# EAGLE library part ADSP21161 (library analog-devices)
DSP Microcomputer
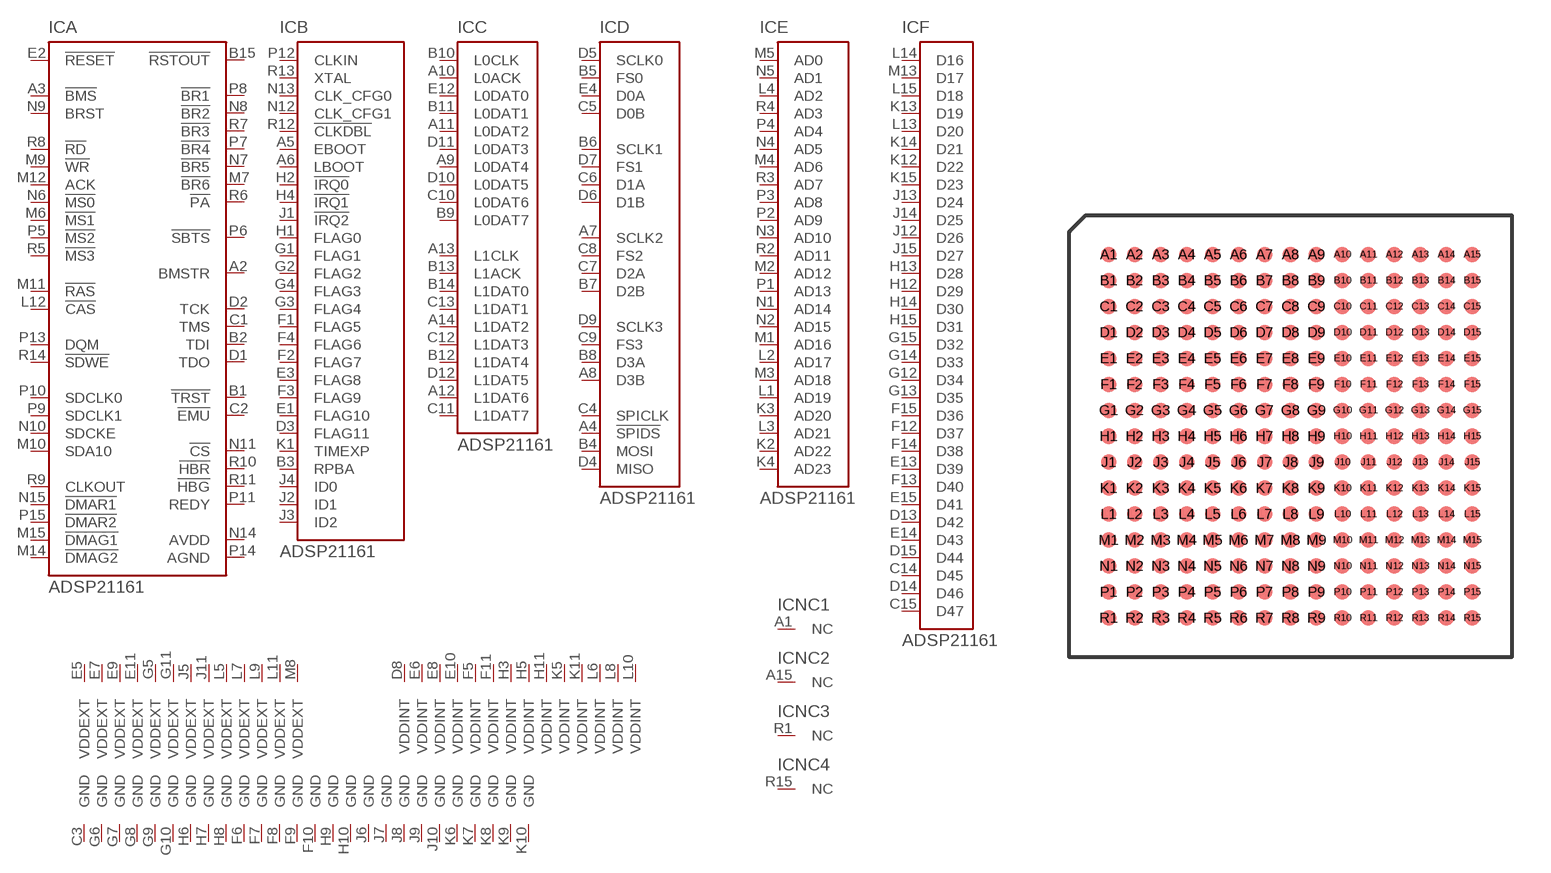
[diagram p21: symbol with the pads of MBGA225; footprint MBGA225]

Designator prefix IC; gates E=ADSP-21161-ADR NC1=NC NC2=NC B=ADSP-21161-CTRL1 A=ADSP-21161-CTRL2 C=ADSP-21161-PAR D=ADSP-21161-SER VE1=VDDEXT VE2=VDDEXT VE3=VDDEXT VE4=VDDEXT VE5=VDDEXT VE6=VDDEXT VE7=VDDEXT VI1=VDDINT VI2=VDDINT VI3=VDDINT VI4=VDDINT VI5=VDDINT VI6=VDDINT VI7=VDDINT G1=GND G2=GND G3=GND G4=GND G5=GND G6=GND G7=GND G8=GND G9=GND G10=GND G11=GND G12=GND G13=GND G14=GND G15=GND G16=GND G17=GND F=ADSP-21161-DATA VE8=VDDEXT VE9=VDDEXT VE10=VDDEXT VE11=VDDEXT VE12=VDDEXT VI8=VDDINT VI9=VDDINT VI10=VDDINT VI11=VDDINT VI12=VDDINT VI13=VDDINT G18=GND G19=GND G20=GND G21=GND G22=GND G23=GND G24=GND G25=GND G26=GND VE13=VDDEXT VI14=VDDINT AV=AVDD AG=AGND NC3=NC NC4=NC

## ADSP21161 (MF: ALTERA CORPORATION; MPN: ADSP-21161NCCA-100; OC_FARNELL: 1465539; OC_NEWARK: 02H1229)  [MBGA225]
A1  NC1:NC  nc
A2  A:BMSTR  out
A3  A:!BMS
A4  D:!SPIDS  in
A5  B:EBOOT  in
A6  B:LBOOT  in
A7  D:SCLK2
A8  D:D3B
A9  C:L0DAT4
A10  C:L0ACK
A11  C:L0DAT2
A12  C:L1DAT6
A13  C:L1CLK
A14  C:L1DAT2
A15  NC2:NC  nc
B1  A:!TRST  in
B2  A:TDI  in
B3  B:RPBA  in
B4  D:MOSI
B5  D:FS0
B6  D:SCLK1
B7  D:D2B
B8  D:D3A
B9  C:L0DAT7
B10  C:L0CLK
B11  C:L0DAT1
B12  C:L1DAT4
B13  C:L1ACK
B14  C:L1DAT0
B15  A:!RSTOUT  out
C1  A:TMS  in
C2  A:!EMU  out
C3  G1:GND  pwr
C4  D:SPICLK
C5  D:D0B
C6  D:D1A
C7  D:D2A
C8  D:FS2
C9  D:FS3
C10  C:L0DAT6
C11  C:L1DAT7
C12  C:L1DAT3
C13  C:L1DAT1
C14  F:D45  hiz
C15  F:D47  hiz
D1  A:TDO  out
D2  A:TCK  in
D3  B:FLAG11
D4  D:MISO
D5  D:SCLK0
D6  D:D1B
D7  D:FS1
D8  VI1:VDDINT  pwr
D9  D:SCLK3
D10  C:L0DAT5
D11  C:L0DAT3
D12  C:L1DAT5
D13  F:D42  hiz
D14  F:D46  hiz
D15  F:D44  hiz
E1  B:FLAG10
E2  A:!RESET  in
E3  B:FLAG8
E4  D:D0A
E5  VE1:VDDEXT  pwr
E6  VI2:VDDINT  pwr
E7  VE2:VDDEXT  pwr
E8  VI3:VDDINT  pwr
E9  VE3:VDDEXT  pwr
E10  VI4:VDDINT  pwr
E11  VE4:VDDEXT  pwr
E12  C:L0DAT0
E13  F:D39  hiz
E14  F:D43  hiz
E15  F:D41  hiz
F1  B:FLAG5
F2  B:FLAG7
F3  B:FLAG9
F4  B:FLAG6
F5  VI5:VDDINT  pwr
F6  G10:GND  pwr
F7  G11:GND  pwr
F8  G12:GND  pwr
F9  G13:GND  pwr
F10  G14:GND  pwr
F11  VI6:VDDINT  pwr
F12  F:D37  hiz
F13  F:D40  hiz
F14  F:D38  hiz
F15  F:D36  hiz
G1  B:FLAG1
G2  B:FLAG2
G3  B:FLAG4
G4  B:FLAG3
G5  VE5:VDDEXT  pwr
G6  G2:GND  pwr
G7  G3:GND  pwr
G8  G4:GND  pwr
G9  G5:GND  pwr
G10  G6:GND  pwr
G11  VE6:VDDEXT  pwr
G12  F:D34  hiz
G13  F:D35  hiz
G14  F:D33  hiz
G15  F:D32  hiz
H1  B:FLAG0
H2  B:!IRQ0  in
H3  VI7:VDDINT  pwr
H4  B:!IRQ1  in
H5  VI8:VDDINT  pwr
H6  G7:GND  pwr
H7  G8:GND  pwr
H8  G9:GND  pwr
H9  G15:GND  pwr
H10  G16:GND  pwr
H11  VI9:VDDINT  pwr
H12  F:D29  hiz
H13  F:D28  hiz
H14  F:D30  hiz
H15  F:D31  hiz
J1  B:!IRQ2  in
J2  B:ID1  in
J3  B:ID2  in
J4  B:ID0  in
J5  VE7:VDDEXT  pwr
J6  G17:GND  pwr
J7  G18:GND  pwr
J8  G19:GND  pwr
J9  G20:GND  pwr
J10  G21:GND  pwr
J11  VE8:VDDEXT  pwr
J12  F:D26  hiz
J13  F:D24  hiz
J14  F:D25  hiz
J15  F:D27  hiz
K1  B:TIMEXP  out
K2  E:AD22  hiz
K3  E:AD20  hiz
K4  E:AD23  hiz
K5  VI10:VDDINT  pwr
K6  G22:GND  pwr
K7  G23:GND  pwr
K8  G24:GND  pwr
K9  G25:GND  pwr
K10  G26:GND  pwr
K11  VI11:VDDINT  pwr
K12  F:D22  hiz
K13  F:D19  hiz
K14  F:D21  hiz
K15  F:D23  hiz
L1  E:AD19  hiz
L2  E:AD17  hiz
L3  E:AD21  hiz
L4  E:AD2  hiz
L5  VE9:VDDEXT  pwr
L6  VI12:VDDINT  pwr
L7  VE10:VDDEXT  pwr
L8  VI13:VDDINT  pwr
L9  VE11:VDDEXT  pwr
L10  VI14:VDDINT  pwr
L11  VE12:VDDEXT  pwr
L12  A:!CAS
L13  F:D20  hiz
L14  F:D16  hiz
L15  F:D18  hiz
M1  E:AD16  hiz
M2  E:AD12  hiz
M3  E:AD18  hiz
M4  E:AD6  hiz
M5  E:AD0  hiz
M6  A:!MS1  hiz
M7  A:!BR6
M8  VE13:VDDEXT  pwr
M9  A:!WR  hiz
M10  A:SDA10  out
M11  A:!RAS
M12  A:ACK
M13  F:D17  hiz
M14  A:!DMAG2  out
M15  A:!DMAG1  out
N1  E:AD14  hiz
N2  E:AD15  hiz
N3  E:AD10  hiz
N4  E:AD5  hiz
N5  E:AD1  hiz
N6  A:!MS0  hiz
N7  A:!BR5
N8  A:!BR2
N9  A:BRST  hiz
N10  A:SDCKE
N11  A:!CS  in
N12  B:CLK_CFG1  in
N13  B:CLK_CFG0  in
N14  AV:AVDD  pwr
N15  A:!DMAR1  in
P1  E:AD13  hiz
P2  E:AD9  hiz
P3  E:AD8  hiz
P4  E:AD4  hiz
P5  A:!MS2  hiz
P6  A:!SBTS  in
P7  A:!BR4
P8  A:!BR1
P9  A:SDCLK1  out
P10  A:SDCLK0
P11  A:REDY  out
P12  B:CLKIN  in
P13  A:DQM  out
P14  AG:AGND  pwr
P15  A:!DMAR2  in
R1  NC3:NC  nc
R2  E:AD11  hiz
R3  E:AD7  hiz
R4  E:AD3  hiz
R5  A:!MS3  hiz
R6  A:!PA
R7  A:!BR3
R8  A:!RD  hiz
R9  A:CLKOUT  out
R10  A:!HBR  in
R11  A:!HBG
R12  B:!CLKDBL  in
R13  B:XTAL  out
R14  A:!SDWE
R15  NC4:NC  nc

## Footprint MBGA225 (pad centres in mm)
Micro Ball Grid Aray 225
smd 0.6 x 0.6: A1 -7,7; A2 -6,7; A3 -5,7; A4 -4,7; A5 -3,7; A6 -2,7; A7 -1,7; A8 0,7; A9 1,7; A10 2,7; A11 3,7; A12 4,7; A13 5,7; A14 6,7; A15 7,7; B1 -7,6; B2 -6,6; B3 -5,6; B4 -4,6; B5 -3,6; B6 -2,6; B7 -1,6; B8 0,6; B9 1,6; B10 2,6; B11 3,6; B12 4,6; B13 5,6; B14 6,6; B15 7,6; C1 -7,5; C2 -6,5; C3 -5,5; C4 -4,5; C5 -3,5; C6 -2,5; C7 -1,5; C8 0,5; C9 1,5; C10 2,5; C11 3,5; C12 4,5; C13 5,5; C14 6,5; C15 7,5; D1 -7,4; D2 -6,4; D3 -5,4; D4 -4,4; D5 -3,4; D6 -2,4; D7 -1,4; D8 0,4; D9 1,4; D10 2,4; D11 3,4; D12 4,4; D13 5,4; D14 6,4; D15 7,4; E1 -7,3; E2 -6,3; E3 -5,3; E4 -4,3; E5 -3,3; E6 -2,3; E7 -1,3; E8 0,3; E9 1,3; E10 2,3; E11 3,3; E12 4,3; E13 5,3; E14 6,3; E15 7,3; F1 -7,2; F2 -6,2; F3 -5,2; F4 -4,2; F5 -3,2; F6 -2,2; F7 -1,2; F8 0,2; F9 1,2; F10 2,2; F11 3,2; F12 4,2; F13 5,2; F14 6,2; F15 7,2; G1 -7,1; G2 -6,1; G3 -5,1; G4 -4,1; G5 -3,1; G6 -2,1; G7 -1,1; G8 0,1; G9 1,1; G10 2,1; G11 3,1; G12 4,1; G13 5,1; G14 6,1; G15 7,1; H1 -7,0; H2 -6,0; H3 -5,0; H4 -4,0; H5 -3,0; H6 -2,0; H7 -1,0; H8 0,0; H9 1,0; H10 2,0; H11 3,0; H12 4,0; H13 5,0; H14 6,0; H15 7,0; J1 -7,-1; J2 -6,-1; J3 -5,-1; J4 -4,-1; J5 -3,-1; J6 -2,-1; J7 -1,-1; J8 0,-1; J9 1,-1; J10 2,-1; J11 3,-1; J12 4,-1; J13 5,-1; J14 6,-1; J15 7,-1; K1 -7,-2; K2 -6,-2; K3 -5,-2; K4 -4,-2; K5 -3,-2; K6 -2,-2; K7 -1,-2; K8 0,-2; K9 1,-2; K10 2,-2; K11 3,-2; K12 4,-2; K13 5,-2; K14 6,-2; K15 7,-2; L1 -7,-3; L2 -6,-3; L3 -5,-3; L4 -4,-3; L5 -3,-3; L6 -2,-3; L7 -1,-3; L8 0,-3; L9 1,-3; L10 2,-3; L11 3,-3; L12 4,-3; L13 5,-3; L14 6,-3; L15 7,-3; M1 -7,-4; M2 -6,-4; M3 -5,-4; M4 -4,-4; M5 -3,-4; M6 -2,-4; M7 -1,-4; M8 0,-4; M9 1,-4; M10 2,-4; M11 3,-4; M12 4,-4; M13 5,-4; M14 6,-4; M15 7,-4; N1 -7,-5; N2 -6,-5; N3 -5,-5; N4 -4,-5; N5 -3,-5; N6 -2,-5; N7 -1,-5; N8 0,-5; N9 1,-5; N10 2,-5; N11 3,-5; N12 4,-5; N13 5,-5; N14 6,-5; N15 7,-5; P1 -7,-6; P2 -6,-6; P3 -5,-6; P4 -4,-6; P5 -3,-6; P6 -2,-6; P7 -1,-6; P8 0,-6; P9 1,-6; P10 2,-6; P11 3,-6; P12 4,-6; P13 5,-6; P14 6,-6; P15 7,-6; R1 -7,-7; R2 -6,-7; R3 -5,-7; R4 -4,-7; R5 -3,-7; R6 -2,-7; R7 -1,-7; R8 0,-7; R9 1,-7; R10 2,-7; R11 3,-7; R12 4,-7; R13 5,-7; R14 6,-7; R15 7,-7